# EAGLE library part MAX1167 (library paparazzi3)
16 bits 4 channel ADC
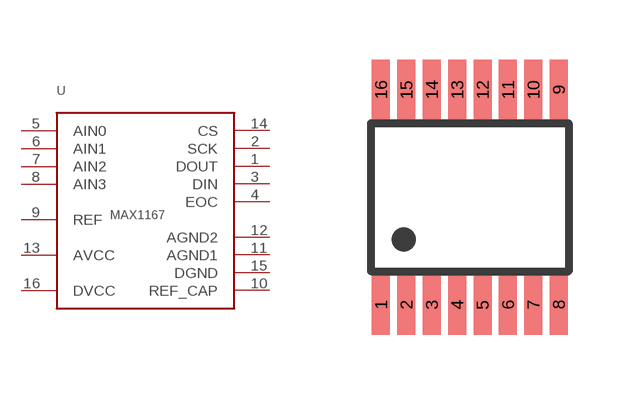
[diagram p35: symbol with the pads of QSOP16; footprint QSOP16]

Designator prefix -

## MAX1167  [QSOP16]
1  DOUT
2  SCK
3  DIN
4  EOC
5  AIN0
6  AIN1
7  AIN2
8  AIN3
9  REF
10  REF_CAP
11  AGND1
12  AGND2
13  AVCC
14  CS
15  DGND
16  DVCC

## Footprint QSOP16 (pad centres in mm)
Small Outline Package
smd 0.45 x 1.5: 1 -2.223,-2.69; 2 -1.587,-2.69; 3 -0.953,-2.69; 4 -0.318,-2.69; 5 0.318,-2.69; 6 0.953,-2.69; 7 1.587,-2.69; 8 2.223,-2.69; 9 2.223,2.69; 10 1.587,2.69; 11 0.953,2.69; 12 0.318,2.69; 13 -0.318,2.69; 14 -0.953,2.69; 15 -1.587,2.69; 16 -2.223,2.69